# EAGLE library part GBM16 (library dcc)
Occupancy Detektor
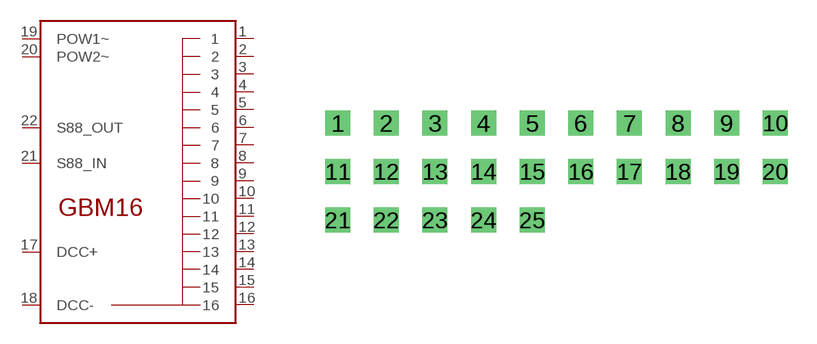
[diagram p4: symbol with the pads of DUMMY25; footprint DUMMY25]

Designator prefix -

## GBM16  [DUMMY25]
1  1
2  2
3  3
4  4
5  5
6  6
7  7
8  8
9  9
10  10
11  11
12  12
13  13
14  14
15  15
16  16
17  DCC+
18  DCC-
19  POW1~
20  POW2~
21  S88_IN
22  S88_OUT

## Footprint DUMMY25 (pad centres in mm)
drill 0.8 square: 1 -11.43,0; 2 -8.89,0; 3 -6.35,0; 4 -3.81,0; 5 -1.27,0; 6 1.27,0; 7 3.81,0; 8 6.35,0; 9 8.89,0; 10 11.43,0; 11 -11.43,-2.54; 12 -8.89,-2.54; 13 -6.35,-2.54; 14 -3.81,-2.54; 15 -1.27,-2.54; 16 1.27,-2.54; 17 3.81,-2.54; 18 6.35,-2.54; 19 8.89,-2.54; 20 11.43,-2.54; 21 -11.43,-5.08; 22 -8.89,-5.08; 23 -6.35,-5.08; 24 -3.81,-5.08; 25 -1.27,-5.08